# Altium schematic symbol library AOD417.SchLib: 1 symbol
Pins are listed as number, name and electrical type; pins without a type are passive.

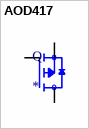
[diagram p0: symbol AOD417]

## AOD417
designator Q
P-Channel 30V 25A _Ta_ 2.5W _Ta_, 50W _Tc_ Surface Mount TO-252, _D-Pak_; MP: AOD417; MF: Alpha &; SnapEDA_Link: https://www.snapeda.com/parts/AOD417/Alpha%20%26%20Omega%20Semiconductor%20Inc./view-part/454934/?ref=snap; Availability: Unavailable; Price: None; Package: TO-252 Alpha &amp; Omega Semiconductor; Value: *
footprint DPAK228P994X240_3N
pins: 1 G, 3 S, 4 D